# Altium footprint library VGA_M.PcbLib: 1 footprints
Each footprint in its own frame and in the unit in brackets; x right, y up, seen from the top. Pads: shape width x height; smd on the part's side, far side on the other; paste and mask are expansions set on the pad; w line width, h text height; cw(c..) or ccw(c..) is an arc to the next point about the centre after c.
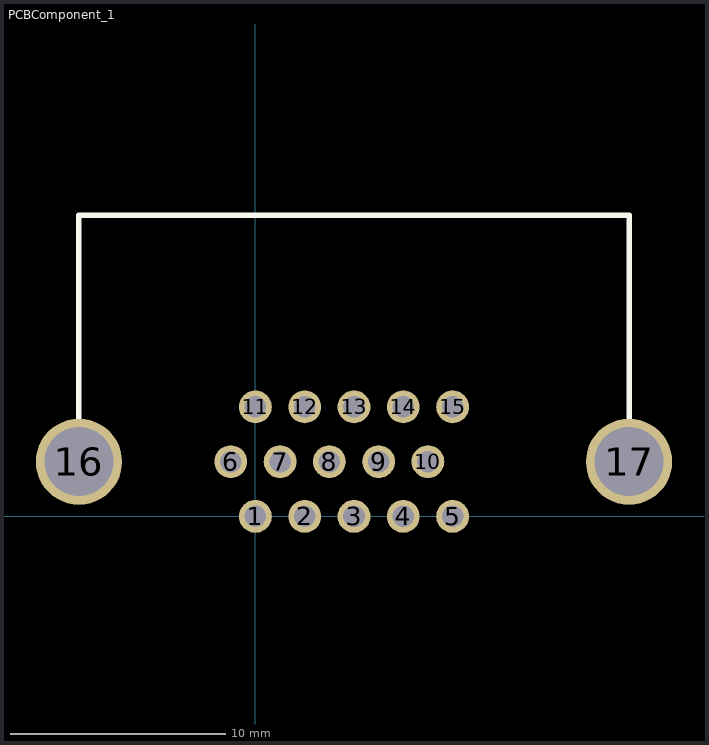
[diagram p0: the footprint, top view; thin cyan lines are the x and y axes]

## PCBComponent_1 [mil]
pads (17):
  round 60 hole 39.37: 1(0,0) 2(90,0) 3(180,0) 4(270,0) 5(360,0) 6(-45,100) 7(45,100) 8(135,100) 9(225,100) 10(315,100) 11(0,200) 12(90,200) 13(180,200) 14(270,200) 15(360,200)
  round 157.48 hole 125.98: 16(-322.17,100) 17(682.17,100)
Top Overlay:
  lines w10: -322.17,100 -322.17,550 682.17,550 682.17,100